# Altium schematic symbol library LED_Backlight.Schlib: 1 symbol
Pins are listed as number, name and electrical type; pins without a type are passive.

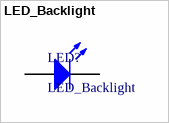
[diagram p0: symbol LED_Backlight]

## LED_Backlight
designator LED?
Yellow Led
pins: 1 A, 2 K